# Altium footprint library NM3001.PcbLib: 1 footprints
Each footprint in its own frame and in the unit in brackets; x right, y up, seen from the top. Pads: shape width x height; smd on the part's side, far side on the other; paste and mask are expansions set on the pad; w line width, h text height; cw(c..) or ccw(c..) is an arc to the next point about the centre after c.
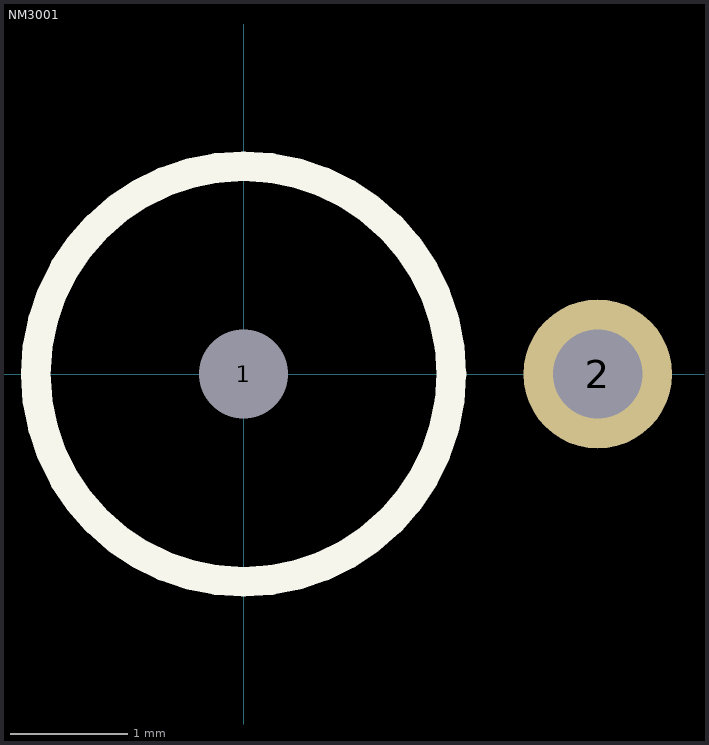
[diagram p0: the footprint, top view; thin cyan lines are the x and y axes]

## NM3001 [mil]
height 225
pads (2):
  round 10 / inner round 50 / far side round 50 hole 30: 1(0,0)
  round 50 hole 30: 2(119,0)
TopOverlay:
  circle w10: c0,0 r69.81
3D body: height 230.6, standoff -79.4, extent -77.5,-77.5 130.5,77.5